# EAGLE library part HI1-0303-5 (library Intersil_By_element14_Batch_1)
Dual, SPDT CMOS Analog Switch
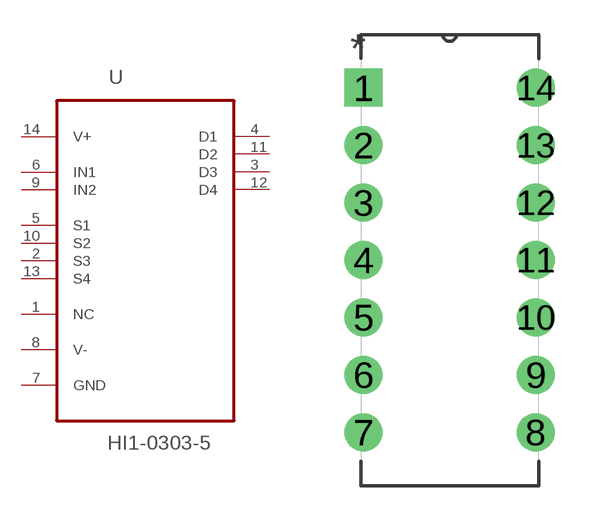
[diagram p116: symbol with the pads of DIP254P762X508-14; footprint DIP254P762X508-14]

Designator prefix U

## HI1-0303-5 (MPN: HI1-0303-5; OC_FARNELL: -; OC_NEWARK: 06F6245; PACKAGE: CDIP-14; SUPPLIER: INTERSIL)  [DIP254P762X508-14]
1  NC  nc
2  S3  pas
3  D3  pas
4  D1  pas
5  S1  pas
6  IN1  in
7  GND  pas
8  V-  pwr
9  IN2  in
10  S2  pas
11  D2  pas
12  D4  pas
13  S4  pas
14  V+  pwr

## Footprint DIP254P762X508-14 (pad centres in mm)
drill 1.118 square: 1 -7.62,15.24
drill 1.118: 2 -7.62,12.7; 3 -7.62,10.16; 4 -7.62,7.62; 5 -7.62,5.08; 6 -7.62,2.54; 7 -7.62,0; 8 0,0; 9 0,2.54; 10 0,5.08; 11 0,7.62; 12 0,10.16; 13 0,12.7; 14 0,15.24